# EAGLE library part SIA469DJ (library transistor-power)
P-Channel 30 V, 12 A, 40 mOhm MOSFET
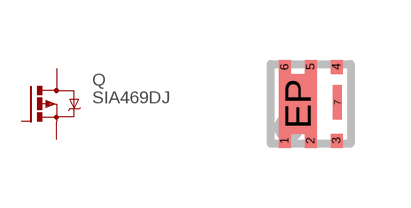
[diagram p0: symbol with the pads of SC70-6LSINGLE; footprint SC70-6LSINGLE]

Designator prefix Q

## SIA469DJ  [SC70-6LSINGLE]
1  D  pas
2  D  pas
3  G  pas
4  S  pas
5  D  pas
6  D  pas
7  S  pas
EP  D  pas

## Footprint SC70-6LSINGLE (pad centres in mm)
PowerPAK® SC70-6L Single
smd 0.3 x 0.35: 1 -0.65,-0.925; 2 0,-0.925; 3 0.65,-0.925; 4 0.65,0.925; 5 0,0.925; 6 -0.65,0.925
smd 0.235 x 0.87: 7 0.669,0.037
smd 0.95 x 1.5: EP -0.325,0